# Altium schematic symbol library Relay_TE_Connectivity_V23079A1001B301_eec.SchLib: 1 symbol
Pins are listed as number, name and electrical type; pins without a type are passive.

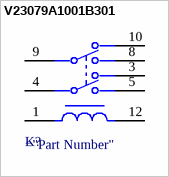
[diagram p0: symbol V23079A1001B301]

## V23079A1001B301
designator K?  (value not drawn)
footprint TE_Connectivity_V23079A1001B301_Recommended_Land_Pattern
pins: 1, 3, 4, 5, 8, 9, 10, 12